# Altium footprint library Net ties.PcbLib: 6 footprints
Each footprint in its own frame and in the unit in brackets; x right, y up, seen from the top. Pads: shape width x height; smd on the part's side, far side on the other; paste and mask are expansions set on the pad; w line width, h text height; cw(c..) or ccw(c..) is an arc to the next point about the centre after c.
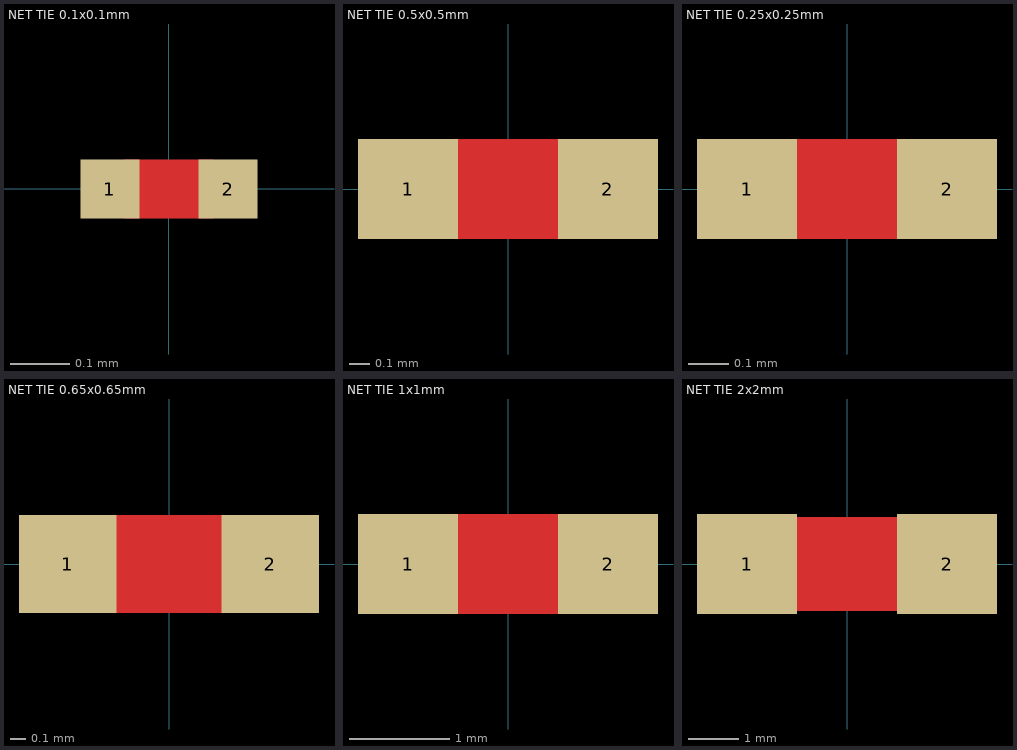
[diagram p0: the footprints below, top view; thin cyan lines are the x and y axes]

## NET TIE 0.1x0.1mm [mm] "NET Connection (for one GND point usually)"
pads (2):
  rect 0.1x0.1 smd paste+0 mask+0: 1(-0.1,0)
  rect 0.1x0.1 smd mask+0: 2(0.1,0)
Top Layer:
  rectangle: -0.075,-0.05 0.075,0.05

## NET TIE 0.5x0.5mm [mm] "NET Connection (for one GND point usually)"
pads (2):
  rect 0.5x0.5 smd paste+0 mask+0: 1(-0.5,0)
  rect 0.5x0.5 smd mask+0: 2(0.5,0)
Top Layer:
  rectangle: -0.4,-0.25 0.4,0.25

## NET TIE 0.25x0.25mm [mm] "NET Connection (for one GND point usually)"
pads (2):
  rect 0.25x0.25 smd paste+0 mask+0: 1(-0.25,0) 2(0.25,0)
Top Layer:
  rectangle: -0.175,-0.125 0.175,0.125

## NET TIE 0.65x0.65mm [mm] "NET Connection (for one GND point usually)"
pads (2):
  rect 0.65x0.65 smd paste+0 mask+0: 1(-0.675,0)
  rect 0.65x0.65 smd mask+0: 2(0.675,0)
Top Layer:
  rectangle: -0.4,-0.325 0.4,0.325

## NET TIE 1x1mm [mm] "NET Connection (for one GND point usually)"
pads (2):
  rect 1x1 smd mask+0: 1(-1,0) 2(1,0)
Top Layer:
  rectangle: -0.7,-0.5 0.7,0.5

## NET TIE 2x2mm [mm] "NET Connection (for one GND point usually)"
pads (2):
  rect 2x2 smd mask+0: 1(-2,0) 2(2,0)
Top Layer:
  rectangle: -1.5,-0.94 1.5,0.94